# Altium schematic symbol library LT1763.SchLib: 1 symbol
Pins are listed as number, name and electrical type; pins without a type are passive.

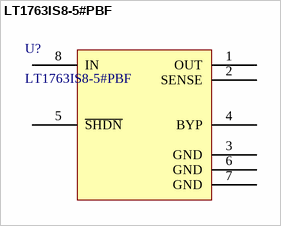
[diagram p0: symbol LT1763IS8-5#PBF]

## LT1763IS8-5#PBF
designator U?
IC REG LINEAR 5V 500MA 8SOIC; Manufacturer: Analog Devices / Linear Technology; Dropout Voltage: 300mV; Number of Outputs: 1; Max Input Voltage: 20V; Min Input Voltage: 1.8V; Min Current Limit: 520mA; Polarity: Positive; Operating Supply Current: 30uA; Power Supply Rejection Ratio (PSRR): 65dB; Output Type: Fixed; Supplier 1: Digi-Key; Manufacturer Part Number: LT1763IS8-5#PBF; Stock 1: 1418; Pricing 1: 1 = 5.20000, 25 = 3.45400, 100 = 2.85600, 250 = 2.71320, 500 = 2.65200 (USD); RoHS 1: Yes; Case/Package: SOIC; Number of Pins: 8; Min Operating Temperature: -40°C; Max Operating Temperature: 125°C; Output Current: 500mA; Package Quantity: 100; Packaging: Rail/Tube; Output Voltage: 5V; Nominal Output Voltage: 5V; Number of Regulators: 1; REACH SVHC: No SVHC; ComponentLink1URL: https://datasheet.ciiva.com/22659/1599494-22659223.pdf?src-supplier=Farnell; ComponentLink1Description: Datasheet 2 (Farnell); ComponentLink2URL: https://datasheet.ciiva.com/2058/3903-2058730.pdf?src-supplier=Digi-Key; ComponentLink2Description: Datasheet 1 (Digi-Key); Supplier Part Number 1: LT1763IS8-5#PBF-ND
footprint SOIC127P600X175-8M (SOIC, 8-Leads, Body 4.90x3.90mm, Pitch 1.27mm, IPC Low Density)
pins: 1 OUT (power), 2 SENSE, 3 GND (power), 4 BYP, 5 ~{SHDN}, 6 GND (power), 7 GND (power), 8 IN